# EAGLE library part 2**? (library potentiometers)
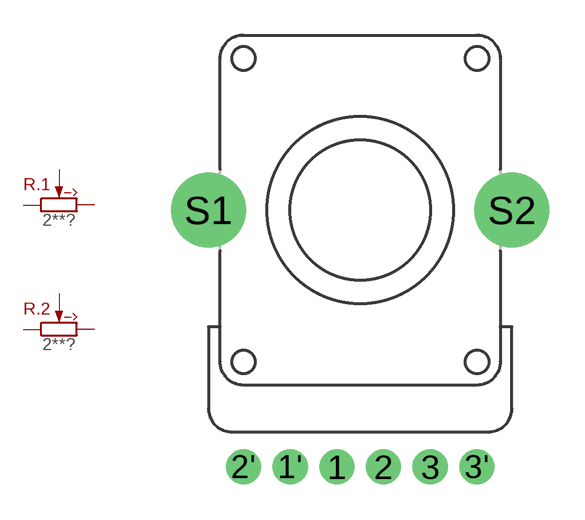
[diagram p2: symbol with the pads of RV11-DUAL; footprint RV11-DUAL]

Designator prefix R; gates .1=POTENTIOMETER .2=POTENTIOMETER

## 2A10K (MOUSER: 688-RK12L12C0A0E)  [RV11-DUAL]
1  .1:CCW  pas
1'  .2:CCW  pas
2  .1:W  pas
2'  .2:W  pas
3  .1:CW  pas
3'  .2:CW  pas

## 2B20K(CD) (MOUSER: 688-RK12L1230C1M)  [RV11-DUAL]
Pads as for RV11-DUAL

## 2A1M (MOUSER: 317-2102F-1M)  [RV11-DUAL]
Pads as for RV11-DUAL

## 2B50K* (MOUSER: 652-PTV112-4420AB503)  [RV11-DUAL]
Pads as for RV11-DUAL

## 2B10K(CD)* (MOUSER: 652-PTV112-4220AB103)  [RV11-DUAL]
Pads as for RV11-DUAL

## 2A50K* (MOUSER: 652-PTV112-4420AA503)  [RV11-DUAL]
Pads as for RV11-DUAL

## 2B10K* (MOUSER: 652-PTV112-4420AB103)  [RV11-DUAL]
Pads as for RV11-DUAL

## 2B5K  [RV11-DUAL]
Pads as for RV11-DUAL

## 2B50K  [RV11-DUAL]
Pads as for RV11-DUAL

## 2A50K  [RV11-DUAL]
Pads as for RV11-DUAL

## Footprint RV11-DUAL (pad centres in mm)
drill 1: 1 -1,-11; 1' -3,-11; 2 1,-11; 2' -5,-11; 3 3,-11; 3' 5,-11
drill 2.2: S1 -6.5,0; S2 6.5,0